# EAGLE library part TCMT4600 (library TCMT4600)
Optocoupler, Phototransistor Output, AC Input, Single / Quad Channel, Half Pitch Mini-Flat Package
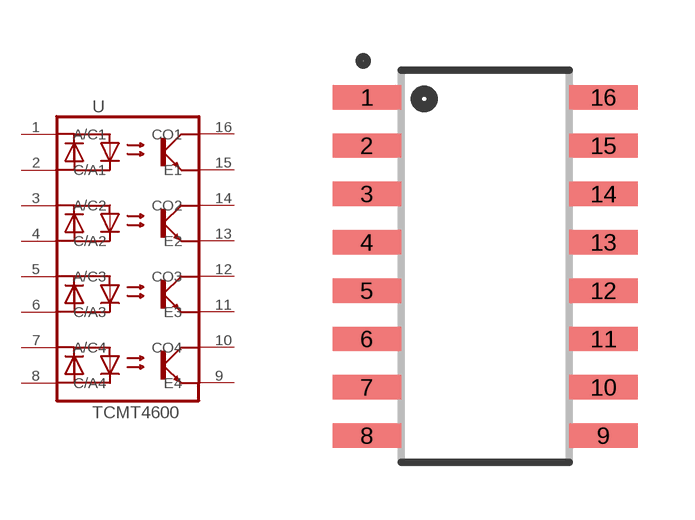
[diagram p0: symbol with the pads of SOIC127P700X210-16N; footprint SOIC127P700X210-16N]

Designator prefix U

## TCMT4600 (Availability: Unavailable; Description: TCMT4600 Series Quad Channel 70V 3750 Vrms Phototransistor Optocoupler - SOIC-16; MF: Vishay; MP: TCMT4600; Package: SOP-16 Vishay; Price: None)  [SOIC127P700X210-16N]
1  A/C1  pas
2  C/A1  pas
3  A/C2  pas
4  C/A2  pas
5  A/C3  pas
6  C/A3  pas
7  A/C4  pas
8  C/A4  pas
9  E4  pas
10  CO4  pas
11  E3  pas
12  CO3  pas
13  E2  pas
14  CO2  pas
15  E1  pas
16  CO1  pas

## Footprint SOIC127P700X210-16N (pad centres in mm)
smd 1.8 x 0.64: 1 -3.105,4.445; 2 -3.105,3.175; 3 -3.105,1.905; 4 -3.105,0.635; 5 -3.105,-0.635; 6 -3.105,-1.905; 7 -3.105,-3.175; 8 -3.105,-4.445; 9 3.105,-4.445; 10 3.105,-3.175; 11 3.105,-1.905; 12 3.105,-0.635; 13 3.105,0.635; 14 3.105,1.905; 15 3.105,3.175; 16 3.105,4.445